# Altium schematic symbol library MAX30102.SchLib: 1 symbol
Pins are listed as number, name and electrical type; pins without a type are passive.

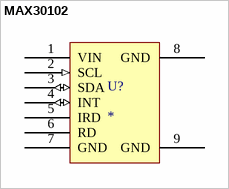
[diagram p0: symbol MAX30102]

## MAX30102
designator U?
footprint MAX30102
pins: 1 VIN (power), 2 SCL (in), 3 SDA (io), 4 INT (io), 5 IRD, 6 RD, 7 GND (power), 8 GND, 9 GND